# Altium footprint library WR-RAST.PcbLib: 34 footprints (part 3 of 3)
Each footprint in its own frame and in the unit in brackets; x right, y up, seen from the top. Pads: shape width x height; smd on the part's side, far side on the other; paste and mask are expansions set on the pad; w line width, h text height; cw(c..) or ccw(c..) is an arc to the next point about the centre after c.
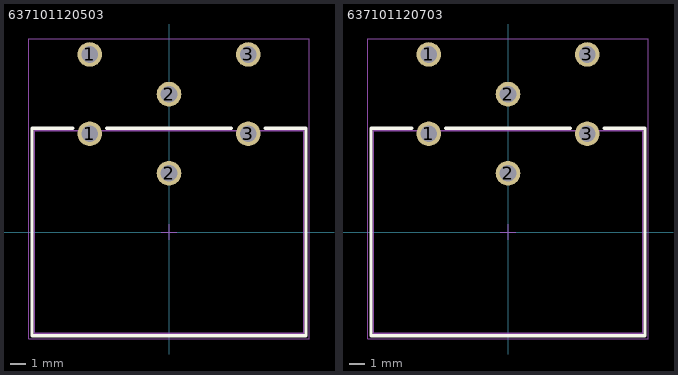
[diagram p2: the footprints below, top view; thin cyan lines are the x and y axes]

## 637101120503 [mm] "THT Horizontal Male Header, pitch 5mm, 3p"
height 14.9
pads (6):
  round 1.55 hole 1.05: 1(-5,6.201) 1(-5,11.201) 2(0,3.701) 2(0,8.701) 3(5,6.201) 3(5,11.201)
Top Overlay:
  lines w0.2: -6.05,6.55 -8.65,6.55 -8.65,-6.55 8.65,-6.55 8.65,6.55 6.05,6.55 ; -3.95,6.55 3.95,6.55
Top Component Outline:
  lines w0.1: -8.5,-6.4 -8.5,6.4 8.5,6.4 8.5,-6.4 -8.5,-6.4
Top Courtyard:
  lines w0.05: -8.85,-6.75 -8.85,12.176 8.85,12.176 8.85,-6.75 -8.85,-6.75
Top Component Center:
  lines w0.05: -0.5,0 0.5,0 ; 0,-0.5 0,0.5
Top Designator (Mech19):
  text ".Designator" at -7.498,-0.5 h1.5
3D body "637101120503.stp": height 15.45, standoff -3.45, extent -8.501,-6.401 8.501,11.601

## 637101120703 [mm] "THT Horizontal Male Header, pitch 5mm, 3p"
height 14.9
pads (6):
  round 1.55 hole 1.05: 1(-5,6.201) 1(-5,11.201) 2(0,3.701) 2(0,8.701) 3(5,6.201) 3(5,11.201)
Top Overlay:
  lines w0.2: -6.05,6.55 -8.65,6.55 -8.65,-6.55 8.65,-6.55 8.65,6.55 6.05,6.55 ; -3.95,6.55 3.95,6.55
Top Component Outline:
  lines w0.1: -8.5,-6.4 8.5,-6.4 8.5,6.4 -8.5,6.4 -8.5,-6.4
Top Courtyard:
  lines w0.05: -8.85,-6.75 8.85,-6.75 8.85,12.176 -8.85,12.176 -8.85,-6.75
Top Component Center:
  lines w0.05: -0.5,0 0.5,0 ; 0,-0.5 0,0.5
Top Designator (Mech19):
  text ".Designator" at -7.498,-0.5 h1.5
3D body "637101120703.stp": height 15.45, standoff -3.45, extent -8.501,-6.401 8.501,11.601